# EAGLE library part TDA1524A (library TDA1524A)
Tone/Vol/Balance Control Philips IC 18-Pin DIP PHILIPS IC 18-PIN DIP TONE/VOL/BALANCE CONTROL IC, Stereo Tone/Volume
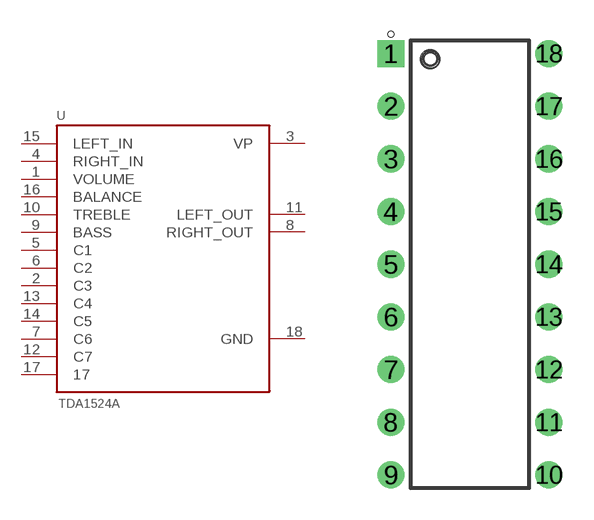
[diagram p0: symbol with the pads of DIP762W46P254L2160H470Q18P; footprint DIP762W46P254L2160H470Q18P]

Designator prefix U

## TDA1524A (Availability: Unavailable; Description: Audio Audio Tone Processor 2 Channel 18-DIP; MF: NXP USA; MP: TDA1524A; Package: DIP-18 Panasonic; Price: None)  [DIP762W46P254L2160H470Q18P]
1  VOLUME  pas
2  C3  pas
3  VP  pwr
4  RIGHT_IN  in
5  C1  pas
6  C2  pas
7  C6  pas
8  RIGHT_OUT  out
9  BASS  pas
10  TREBLE  pas
11  LEFT_OUT  out
12  C7  pas
13  C4  pas
14  C5  pas
15  LEFT_IN  in
16  BALANCE  pas
17  17  pas
18  GND  pwr

## Footprint DIP762W46P254L2160H470Q18P (pad centres in mm)
drill 0.8 pad 1.3 square: 1 -3.81,10.16
drill 0.8 pad 1.3: 2 -3.81,7.62; 3 -3.81,5.08; 4 -3.81,2.54; 5 -3.81,0; 6 -3.81,-2.54; 7 -3.81,-5.08; 8 -3.81,-7.62; 9 -3.81,-10.16; 10 3.81,-10.16; 11 3.81,-7.62; 12 3.81,-5.08; 13 3.81,-2.54; 14 3.81,0; 15 3.81,2.54; 16 3.81,5.08; 17 3.81,7.62; 18 3.81,10.16